# Altium schematic symbol library Antenna.SchLib: 6 symbols
Pins are listed as number, name and electrical type; pins without a type are passive.

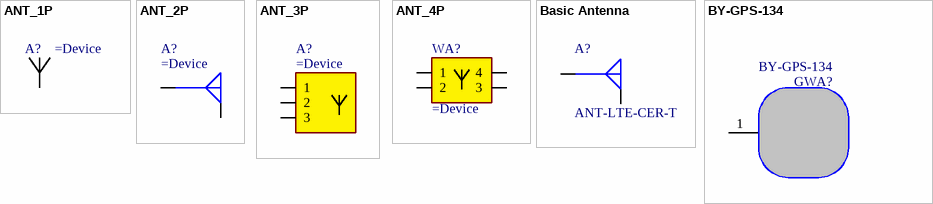
[diagram p0: symbols ANT_1P to BY-GPS-134]

## ANT_1P
designator A?
pins: 1

## ANT_2P
designator A?
Bluetooth Antenna
pins: G, S

## ANT_3P
designator A?
pins: 1, 2, 3

## ANT_4P
designator WA?
Bluetooth Antenna
pins: 1, 2, 3, 4

## Basic Antenna
designator A?, comment ANT-LTE-CER-T
RF ANT 829MHZ/1.94GHZ CHIP SLD; Manufacturer: Linx Technologies Inc.; Frequency (Center/Band): 829MHz, 1.94GHz, 2.35GHz, 2.6GHz; Frequency Group: Wide Band; Frequency Range: 698MHz ~ 960MHz, 1.71GHz ~ 2.17GHz, 2.3GHz ~ 2.4GHz, 2.5GHz ~ 2.7GHz; Gain: 4dBi; Number of Bands: 4; RF Family/Standard: Cellular; VSWR: 4, 3.2, 2.5, 2.5; Part Number: ANT-LTE-CER-T; Antenna Type: Chip; Applications: CAT-M1, Cellular, LTE, NB-IOT, 3G, 4G; ComponentLink1Description: Datasheet; ComponentLink1URL: https://linxtechnologies.com/wp/wp-content/uploads/ant-lte-cer.pdf; ComponentLink2Description: DigiKey Link; ComponentLink2URL: http://digikey.com/product-detail/en/linx-technologies-inc/ANT-LTE-CER-T/ANT-LTE-CER-TCT-ND/8556788; Height (Max): 0.203" (5.15mm); LastUpdated: 30/03/2020 15:23:26; Lifecycle Status: Active; Minimum Order: 1; Mounting Type: Surface Mount; Packaging: TapeAndReel; Part Status: Active; Price: 3.43; Series: CER; Supplier 1: DigiKey; Supplier Part Number 1: ANT-LTE-CER-TCT-ND; Termination: Solder
footprint LINX ANT-LTE-CER-T
pins: G, S

## BY-GPS-134
designator GWA?
Beyondoor; PartNumber: BY-GPS-134
footprint BY-GPS-134
pins: 1 A